# EAGLE library part XBEE-* (library Module)
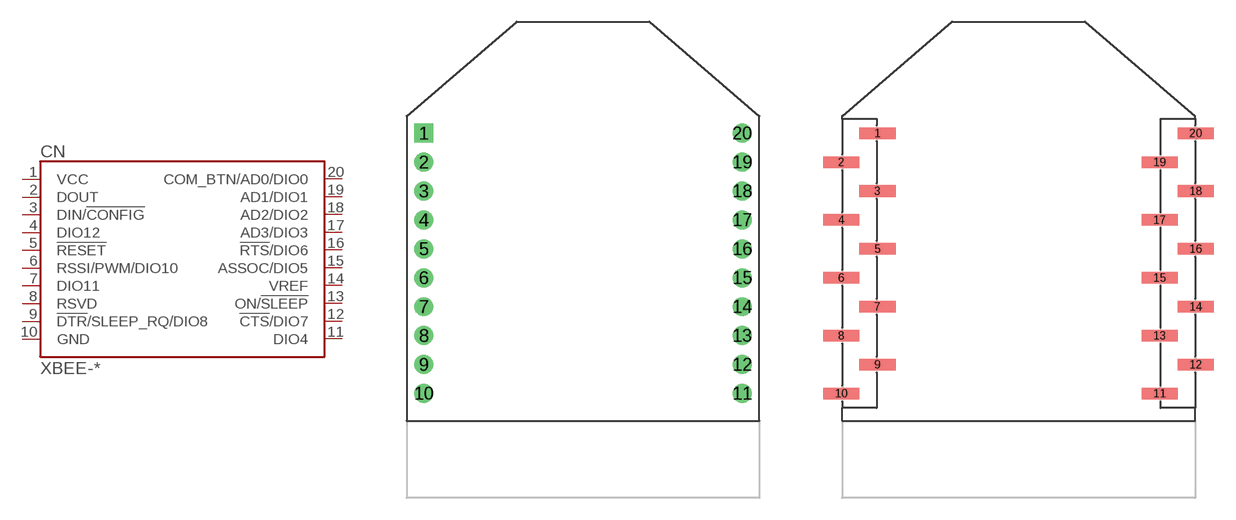
[diagram p0: symbol with the pads of XBEE-TH; footprints XBEE-TH, XBEE-SMT]

Designator prefix CN

## XBEE-TH  [XBEE-TH]
1  VCC
2  DOUT
3  DIN/!CONFIG
4  DIO12
5  !RESET
6  RSSI/PWM/DIO10
7  DIO11
8  RSVD
9  !DTR!/SLEEP_RQ/DIO8
10  GND
11  DIO4
12  !CTS!/DIO7
13  ON/!SLEEP
14  VREF
15  ASSOC/DIO5
16  !RTS!/DIO6
17  AD3/DIO3
18  AD2/DIO2
19  AD1/DIO1
20  COM_BTN/AD0/DIO0

## XBEE-SMT  [XBEE-SMT]
Pads as for XBEE-TH

## XBEE-TH-NOSILK  [XBEE-TH-NOSILK]
Pads as for XBEE-TH

## Footprint XBEE-TH (pad centres in mm)
drill 0.8 square: 1 -11,9
drill 0.8: 2 -11,7; 3 -11,5; 4 -11,3; 5 -11,1; 6 -11,-1; 7 -11,-3; 8 -11,-5; 9 -11,-7; 10 -11,-9; 11 11,-9; 12 11,-7; 13 11,-5; 14 11,-3; 15 11,-1; 16 11,1; 17 11,3; 18 11,5; 19 11,7; 20 11,9

## Footprint XBEE-SMT (pad centres in mm)
smd 2.5 x 0.8: 1 -9.75,9; 2 -12.25,7; 3 -9.75,5; 4 -12.25,3; 5 -9.75,1; 6 -12.25,-1; 7 -9.75,-3; 8 -12.25,-5; 9 -9.75,-7; 10 -12.25,-9; 11 9.75,-9; 12 12.25,-7; 13 9.75,-5; 14 12.25,-3; 15 9.75,-1; 16 12.25,1; 17 9.75,3; 18 12.25,5; 19 9.75,7; 20 12.25,9

## Footprint XBEE-TH-NOSILK (pad centres in mm)
drill 0.8 square: 1 -11,9
drill 0.8: 2 -11,7; 3 -11,5; 4 -11,3; 5 -11,1; 6 -11,-1; 7 -11,-3; 8 -11,-5; 9 -11,-7; 10 -11,-9; 11 11,-9; 12 11,-7; 13 11,-5; 14 11,-3; 15 11,-1; 16 11,1; 17 11,3; 18 11,5; 19 11,7; 20 11,9